# EAGLE library part AP22653W6-7 (library AP22653W6-7)
Power Switch/Driver 1:1 P-Channel 2.1A SOT-23-6 Check availability <https://pricing.snapeda.com/parts/AP22653W6-7/Diodes%20Incorporated/view-part?ref=eda>
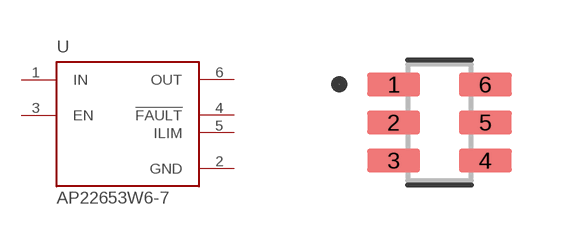
[diagram p0: symbol with the pads of SOT95P280X145-6N; footprint SOT95P280X145-6N]

Designator prefix U

## AP22653W6-7 (Availability: In Stock; Check_prices: https://www.snapeda.com/parts/AP22653W6-7/Diodes+Inc./view-part/?ref=eda; Description: Power Switch/Driver 1:1 P-Channel 2.1A SOT-23-6; MF: Diodes Incorporated; MP: AP22653W6-7; Package: SOT-23-6 Diodes Incorporated; Price: None; Purchase-URL: https://www.snapeda.com/api/url_track_click_mouser/?unipart_id=4792807&manufacturer=Diodes Incorporated&part_name=AP22653W6-7&search_term=ap22653w6-7; SnapEDA_Link: https://www.snapeda.com/parts/AP22653W6-7/Diodes+Inc./view-part/?ref=snap)  [SOT95P280X145-6N]
1  IN  in
2  GND  pwr
3  EN  in
4  !FAULT  out
5  ILIM  out
6  OUT  out

## Footprint SOT95P280X145-6N (pad centres in mm)
smd 1.32 x 0.59: 1 -1.145,0.95; 2 -1.145,0; 3 -1.145,-0.95; 4 1.145,-0.95; 5 1.145,0; 6 1.145,0.95